# Altium schematic symbol library IRSM005-301MH.SchLib: 1 symbol
Pins are listed as number, name and electrical type; pins without a type are passive.

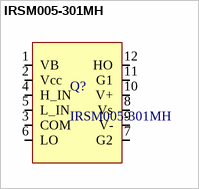
[diagram p0: symbol IRSM005-301MH]

## IRSM005-301MH
designator Q?
Half-bridge with integrated gate driver in  7x8mm / PQFN package
footprint Power_QFN_MCM_28cnt (QFN, 28-Leads, Body 8,00x7,00mm, Pitch 0,80mm/0,75mm, Thermal Pad 1,80x2,37mm, IPC Medium Density)
pins: 1 VB, 2 Vcc, 3 COM, 4 H_IN, 5 L_IN, 6 LO, 7 G2, 8 Vs, 9 V-, 10 V+, 11 G1, 12 HO